# Altium footprint library Discrete_Passive.PcbLib: 311 footprints (part 14 of 20)
Each footprint in its own frame and in the unit in brackets; x right, y up, seen from the top. Pads: shape width x height; smd on the part's side, far side on the other; paste and mask are expansions set on the pad; w line width, h text height; cw(c..) or ccw(c..) is an arc to the next point about the centre after c.
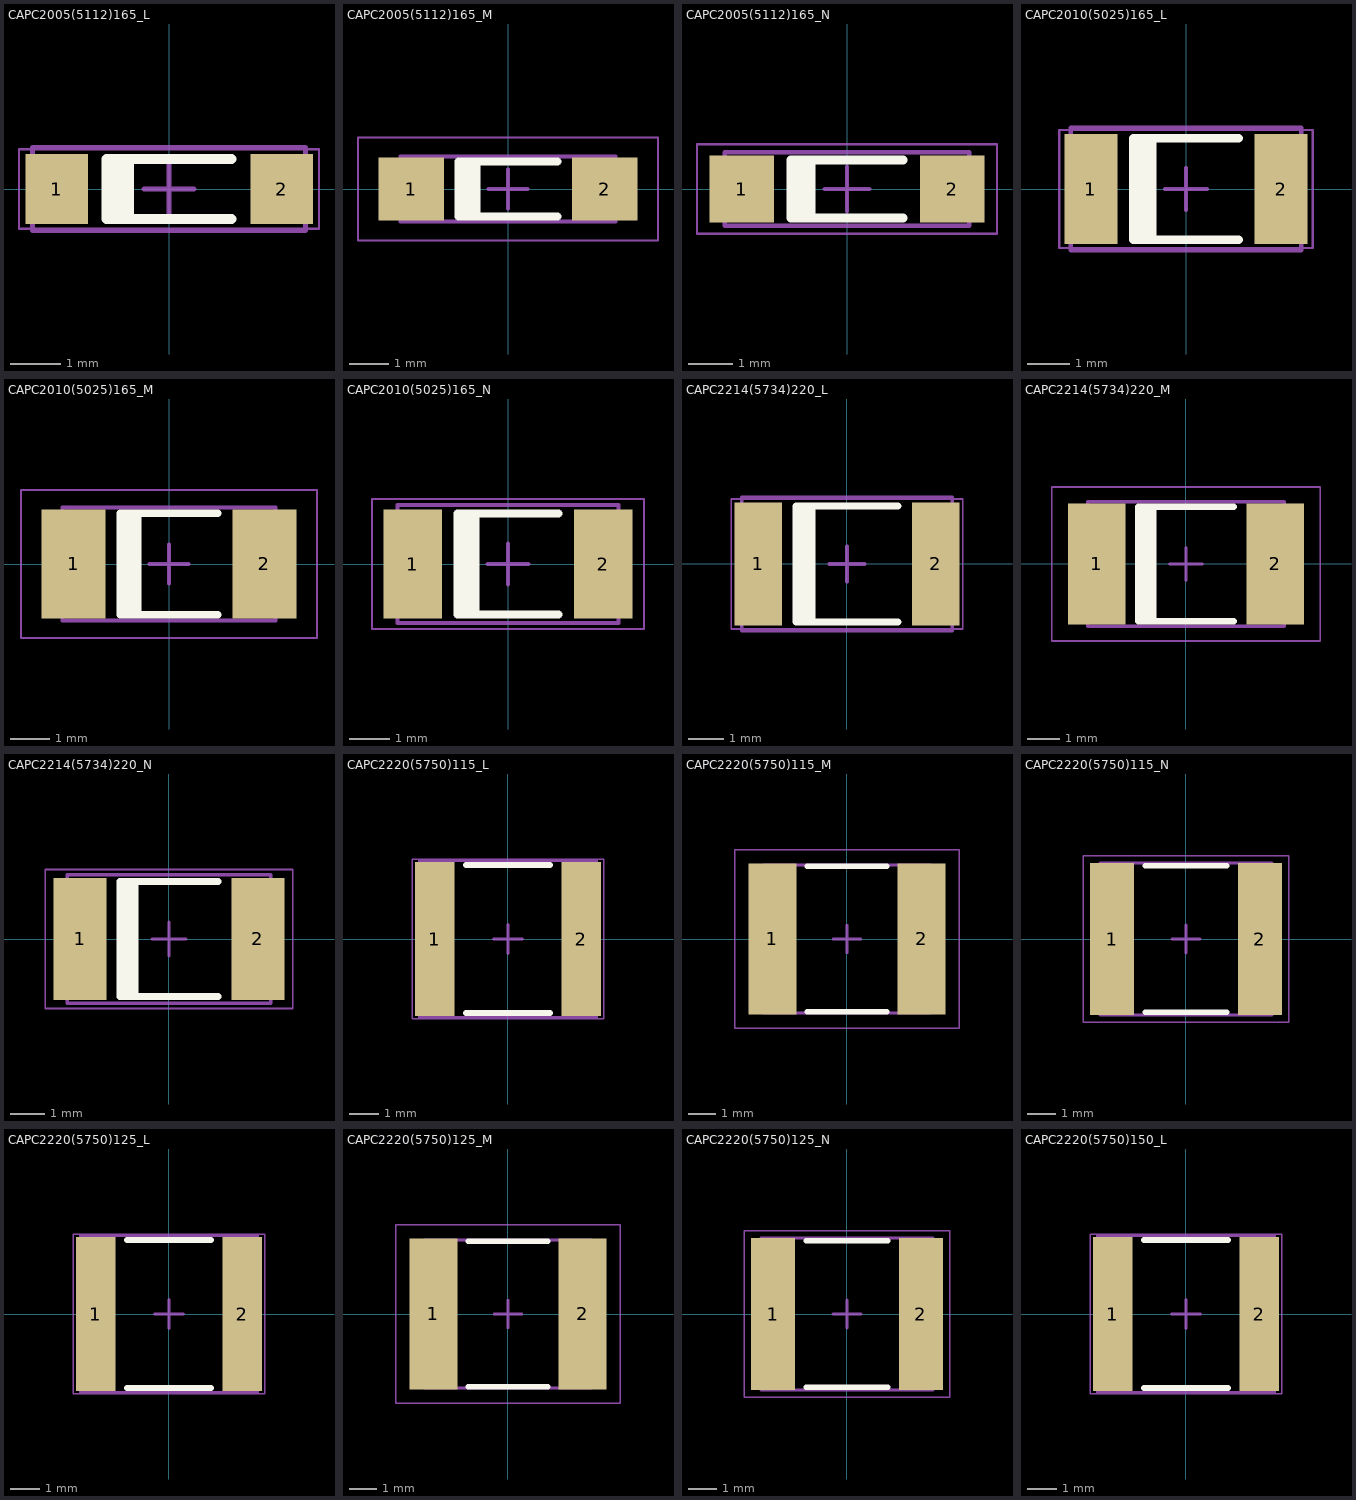
[diagram p13: the footprints below, top view; thin cyan lines are the x and y axes]

## CAPC2005(5112)165_L [mm] "Chip Capacitor, Body 5.0x1.2mm, Height 1.65mm, IPC High Density"
height 1.65
pads (2):
  rect 1.25x1.4 smd: 1(-2.25,0) 2(2.25,0)
Top Overlay:
  rectangle: -1.25,-0.6 -0.7,0.6
  lines w0.2: 1.25,-0.6 -1.25,-0.6 -1.25,0.6 1.25,0.6
Mechanical 13:
  lines w0.1: -2.73,-0.825 2.73,-0.825 2.73,0.825 -2.73,0.825 -2.73,-0.825
Mechanical 15:
  lines w0.05: -3,-0.8 3,-0.8 3,0.8 -3,0.8 -3,-0.8
  lines w0.1: -0.5,0 0.5,0 ; 0,-0.5 0,0.5
3D body: height 1.65, standoff 0, extent 1.97,-0.825 2.73,0.825
3D body: height 1.65, standoff 0, extent -2.73,-0.825 -1.97,0.825
3D body: height 1.65, standoff 0, extent -1.97,-0.825 1.97,0.825

## CAPC2005(5112)165_M [mm] "Chip Capacitor, Body 5.0x1.2mm, Height 1.65mm, IPC Low Density"
height 1.65
pads (2):
  rect 1.65x1.6 smd: 1(-2.45,0) 2(2.45,0)
Top Overlay:
  rectangle: -1.25,-0.7 -0.7,0.7
  lines w0.2: 1.25,-0.7 -1.25,-0.7 -1.25,0.7 1.25,0.7
Mechanical 13:
  lines w0.1: -2.73,-0.825 2.73,-0.825 2.73,0.825 -2.73,0.825 -2.73,-0.825
Mechanical 15:
  lines w0.05: -3.8,-1.3 3.8,-1.3 3.8,1.3 -3.8,1.3 -3.8,-1.3
  lines w0.1: -0.5,0 0.5,0 ; 0,-0.5 0,0.5
3D body: height 1.65, standoff 0, extent 1.97,-0.825 2.73,0.825
3D body: height 1.65, standoff 0, extent -2.73,-0.825 -1.97,0.825
3D body: height 1.65, standoff 0, extent -1.97,-0.825 1.97,0.825

## CAPC2005(5112)165_N [mm] "Chip Capacitor, Body 5.0x1.2mm, Height 1.65mm, IPC Medium Density"
height 1.65
pads (2):
  rect 1.45x1.5 smd: 1(-2.35,0) 2(2.35,0)
Top Overlay:
  rectangle: -1.25,-0.65 -0.7,0.65
  lines w0.2: 1.25,-0.65 -1.25,-0.65 -1.25,0.65 1.25,0.65
Mechanical 13:
  lines w0.1: -2.73,-0.825 2.73,-0.825 2.73,0.825 -2.73,0.825 -2.73,-0.825
Mechanical 15:
  lines w0.05: -3.35,-1 3.35,-1 3.35,1 -3.35,1 -3.35,-1
  lines w0.1: -0.5,0 0.5,0 ; 0,-0.5 0,0.5
3D body: height 1.65, standoff 0, extent 1.97,-0.825 2.73,0.825
3D body: height 1.65, standoff 0, extent -2.73,-0.825 -1.97,0.825
3D body: height 1.65, standoff 0, extent -1.97,-0.825 1.97,0.825

## CAPC2010(5025)165_L [mm] "Chip Capacitor, Body 5.08x2.5mm, Height 1.65mm, IPC High Density"
height 1.65
pads (2):
  rect 1.25x2.6 smd: 1(-2.25,0) 2(2.25,0)
Top Overlay:
  rectangle: -1.25,-1.2 -0.7,1.2
  lines w0.2: 1.25,-1.2 -1.25,-1.2 -1.25,1.2 1.25,1.2
Mechanical 13:
  lines w0.1: -2.73,-1.45 2.73,-1.45 2.73,1.45 -2.73,1.45 -2.73,-1.45
Mechanical 15:
  lines w0.05: -3,-1.4 3,-1.4 3,1.4 -3,1.4 -3,-1.4
  lines w0.1: -0.5,0 0.5,0 ; 0,-0.5 0,0.5
3D body: height 1.65, standoff 0, extent 1.97,-1.45 2.73,1.45
3D body: height 1.65, standoff 0, extent -2.73,-1.45 -1.97,1.45
3D body: height 1.65, standoff 0, extent -1.97,-1.45 1.97,1.45

## CAPC2010(5025)165_M [mm] "Chip Capacitor, Body 5.08x2.5mm, Height 1.65mm, IPC Low Density"
height 1.65
pads (2):
  rect 1.65x2.8 smd: 1(-2.45,0) 2(2.45,0)
Top Overlay:
  rectangle: -1.25,-1.3 -0.7,1.3
  lines w0.2: 1.25,-1.3 -1.25,-1.3 -1.25,1.3 1.25,1.3
Mechanical 13:
  lines w0.1: -2.73,-1.45 2.73,-1.45 2.73,1.45 -2.73,1.45 -2.73,-1.45
Mechanical 15:
  lines w0.05: -3.8,-1.9 3.8,-1.9 3.8,1.9 -3.8,1.9 -3.8,-1.9
  lines w0.1: -0.5,0 0.5,0 ; 0,-0.5 0,0.5
3D body: height 1.65, standoff 0, extent 1.97,-1.45 2.73,1.45
3D body: height 1.65, standoff 0, extent -2.73,-1.45 -1.97,1.45
3D body: height 1.65, standoff 0, extent -1.97,-1.45 1.97,1.45

## CAPC2010(5025)165_N [mm] "Chip Capacitor, Body 5.08x2.5mm, Height 1.65mm, IPC Medium Density"
height 1.65
pads (2):
  rect 1.45x2.7 smd: 1(-2.35,0) 2(2.35,0)
Top Overlay:
  rectangle: -1.25,-1.25 -0.7,1.25
  lines w0.2: 1.25,-1.25 -1.25,-1.25 -1.25,1.25 1.25,1.25
Mechanical 13:
  lines w0.1: -2.73,-1.45 2.73,-1.45 2.73,1.45 -2.73,1.45 -2.73,-1.45
Mechanical 15:
  lines w0.05: -3.35,-1.6 3.35,-1.6 3.35,1.6 -3.35,1.6 -3.35,-1.6
  lines w0.1: -0.5,0 0.5,0 ; 0,-0.5 0,0.5
3D body: height 1.65, standoff 0, extent 1.97,-1.45 2.73,1.45
3D body: height 1.65, standoff 0, extent -2.73,-1.45 -1.97,1.45
3D body: height 1.65, standoff 0, extent -1.97,-1.45 1.97,1.45

## CAPC2214(5734)220_L [mm] "Chip Capacitor, Body 5.7x3.4mm, Height 2.2mm, IPC High Density"
height 2.2
pads (2):
  rect 1.35x3.5 smd: 1(-2.525,0) 2(2.525,0)
Top Overlay:
  rectangle: -1.45,-1.65 -0.9,1.65
  lines w0.2: 1.45,-1.65 -1.45,-1.65 -1.45,1.65 1.45,1.65
Mechanical 13:
  lines w0.1: -3,-1.9 3,-1.9 3,1.9 -3,1.9 -3,-1.9
Mechanical 15:
  lines w0.05: -3.3,-1.85 3.3,-1.85 3.3,1.85 -3.3,1.85 -3.3,-1.85
  lines w0.1: -0.5,0 0.5,0 ; 0,-0.5 0,0.5
3D body: height 2.2, standoff 0, extent 2.24,-1.9 3,1.9
3D body: height 2.2, standoff 0, extent -3,-1.9 -2.24,1.9
3D body: height 2.2, standoff 0, extent -2.24,-1.9 2.24,1.9

## CAPC2214(5734)220_M [mm] "Chip Capacitor, Body 5.7x3.4mm, Height 2.2mm, IPC Low Density"
height 2.2
pads (2):
  rect 1.75x3.7 smd: 1(-2.725,0) 2(2.725,0)
Top Overlay:
  rectangle: -1.45,-1.75 -0.9,1.75
  lines w0.2: 1.45,-1.75 -1.45,-1.75 -1.45,1.75 1.45,1.75
Mechanical 13:
  lines w0.1: -3,-1.9 3,-1.9 3,1.9 -3,1.9 -3,-1.9
Mechanical 15:
  lines w0.05: -4.1,-2.35 4.1,-2.35 4.1,2.35 -4.1,2.35 -4.1,-2.35
  lines w0.1: -0.5,0 0.5,0 ; 0,-0.5 0,0.5
3D body: height 2.2, standoff 0, extent 2.24,-1.9 3,1.9
3D body: height 2.2, standoff 0, extent -3,-1.9 -2.24,1.9
3D body: height 2.2, standoff 0, extent -2.24,-1.9 2.24,1.9

## CAPC2214(5734)220_N [mm] "Chip Capacitor, Body 5.7x3.4mm, Height 2.2mm, IPC Medium Density"
height 2.2
pads (2):
  rect 1.55x3.6 smd: 1(-2.625,0) 2(2.625,0)
Top Overlay:
  rectangle: -1.45,-1.7 -0.9,1.7
  lines w0.2: 1.45,-1.7 -1.45,-1.7 -1.45,1.7 1.45,1.7
Mechanical 13:
  lines w0.1: -3,-1.9 3,-1.9 3,1.9 -3,1.9 -3,-1.9
Mechanical 15:
  lines w0.05: -3.65,-2.05 3.65,-2.05 3.65,2.05 -3.65,2.05 -3.65,-2.05
  lines w0.1: -0.5,0 0.5,0 ; 0,-0.5 0,0.5
3D body: height 2.2, standoff 0, extent 2.24,-1.9 3,1.9
3D body: height 2.2, standoff 0, extent -3,-1.9 -2.24,1.9
3D body: height 2.2, standoff 0, extent -2.24,-1.9 2.24,1.9

## CAPC2220(5750)115_L [mm] "Chip Capacitor, Body 5.7x5.0mm, Height 1.15mm, IPC High Density"
height 1.15
pads (2):
  rect 1.35x5.3 smd: 1(-2.525,0) 2(2.525,0)
Top Overlay:
  lines w0.2: -1.45,-2.55 1.45,-2.55 ; -1.45,2.55 1.45,2.55
Mechanical 13:
  lines w0.1: -3.05,-2.7 3.05,-2.7 3.05,2.7 -3.05,2.7 -3.05,-2.7
Mechanical 15:
  lines w0.05: -3.3,-2.75 3.3,-2.75 3.3,2.75 -3.3,2.75 -3.3,-2.75
  lines w0.1: -0.5,0 0.5,0 ; 0,-0.5 0,0.5
3D body: height 1.15, standoff 0, extent 2.45,-2.7 3.05,2.7
3D body: height 1.15, standoff 0, extent -3.05,-2.7 -2.45,2.7
3D body: height 1.15, standoff 0, extent -2.45,-2.7 2.45,2.7

## CAPC2220(5750)115_M [mm] "Chip Capacitor, Body 5.7x5.0mm, Height 1.15mm, IPC Low Density"
height 1.15
pads (2):
  rect 1.75x5.5 smd: 1(-2.725,0) 2(2.725,0)
Top Overlay:
  lines w0.2: -1.45,-2.65 1.45,-2.65 ; -1.45,2.65 1.45,2.65
Mechanical 13:
  lines w0.1: -3.05,-2.7 3.05,-2.7 3.05,2.7 -3.05,2.7 -3.05,-2.7
Mechanical 15:
  lines w0.05: -4.1,-3.25 4.1,-3.25 4.1,3.25 -4.1,3.25 -4.1,-3.25
  lines w0.1: -0.5,0 0.5,0 ; 0,-0.5 0,0.5
3D body: height 1.15, standoff 0, extent 2.45,-2.7 3.05,2.7
3D body: height 1.15, standoff 0, extent -3.05,-2.7 -2.45,2.7
3D body: height 1.15, standoff 0, extent -2.45,-2.7 2.45,2.7

## CAPC2220(5750)115_N [mm] "Chip Capacitor, Body 5.7x5.0mm, Height 1.15mm, IPC Medium Density"
height 1.15
pads (2):
  rect 1.55x5.4 smd: 1(-2.625,0) 2(2.625,0)
Top Overlay:
  lines w0.2: -1.45,-2.6 1.45,-2.6 ; -1.45,2.6 1.45,2.6
Mechanical 13:
  lines w0.1: -3.05,-2.7 3.05,-2.7 3.05,2.7 -3.05,2.7 -3.05,-2.7
Mechanical 15:
  lines w0.05: -3.65,-2.95 3.65,-2.95 3.65,2.95 -3.65,2.95 -3.65,-2.95
  lines w0.1: -0.5,0 0.5,0 ; 0,-0.5 0,0.5
3D body: height 1.15, standoff 0, extent 2.45,-2.7 3.05,2.7
3D body: height 1.15, standoff 0, extent -3.05,-2.7 -2.45,2.7
3D body: height 1.15, standoff 0, extent -2.45,-2.7 2.45,2.7

## CAPC2220(5750)125_L [mm] "Chip Capacitor, Body 5.7x5.0mm, Height 1.25mm, IPC High Density"
height 1.25
pads (2):
  rect 1.35x5.3 smd: 1(-2.525,0) 2(2.525,0)
Top Overlay:
  lines w0.2: -1.45,-2.55 1.45,-2.55 ; -1.45,2.55 1.45,2.55
Mechanical 13:
  lines w0.1: -3.05,-2.7 3.05,-2.7 3.05,2.7 -3.05,2.7 -3.05,-2.7
Mechanical 15:
  lines w0.05: -3.3,-2.75 3.3,-2.75 3.3,2.75 -3.3,2.75 -3.3,-2.75
  lines w0.1: -0.5,0 0.5,0 ; 0,-0.5 0,0.5
3D body: height 1.25, standoff 0, extent 2.45,-2.7 3.05,2.7
3D body: height 1.25, standoff 0, extent -3.05,-2.7 -2.45,2.7
3D body: height 1.25, standoff 0, extent -2.45,-2.7 2.45,2.7

## CAPC2220(5750)125_M [mm] "Chip Capacitor, Body 5.7x5.0mm, Height 1.25mm, IPC Low Density"
height 1.25
pads (2):
  rect 1.75x5.5 smd: 1(-2.725,0) 2(2.725,0)
Top Overlay:
  lines w0.2: -1.45,-2.65 1.45,-2.65 ; -1.45,2.65 1.45,2.65
Mechanical 13:
  lines w0.1: -3.05,-2.7 3.05,-2.7 3.05,2.7 -3.05,2.7 -3.05,-2.7
Mechanical 15:
  lines w0.05: -4.1,-3.25 4.1,-3.25 4.1,3.25 -4.1,3.25 -4.1,-3.25
  lines w0.1: -0.5,0 0.5,0 ; 0,-0.5 0,0.5
3D body: height 1.25, standoff 0, extent 2.45,-2.7 3.05,2.7
3D body: height 1.25, standoff 0, extent -3.05,-2.7 -2.45,2.7
3D body: height 1.25, standoff 0, extent -2.45,-2.7 2.45,2.7

## CAPC2220(5750)125_N [mm] "Chip Capacitor, Body 5.7x5.0mm, Height 1.25mm, IPC Medium Density"
height 1.25
pads (2):
  rect 1.55x5.4 smd: 1(-2.625,0) 2(2.625,0)
Top Overlay:
  lines w0.2: -1.45,-2.6 1.45,-2.6 ; -1.45,2.6 1.45,2.6
Mechanical 13:
  lines w0.1: -3.05,-2.7 -3.05,2.7 3.05,2.7 3.05,-2.7 -3.05,-2.7
Mechanical 15:
  lines w0.05: -3.65,-2.95 -3.65,2.95 3.65,2.95 3.65,-2.95 -3.65,-2.95
  lines w0.1: -0.5,0 0.5,0 ; 0,-0.5 0,0.5
3D body: height 1.25, standoff 0, extent -2.45,-2.7 2.45,2.7
3D body: height 1.25, standoff 0, extent -3.05,-2.7 -2.45,2.7
3D body: height 1.25, standoff 0, extent 2.45,-2.7 3.05,2.7

## CAPC2220(5750)150_L [mm] "Chip Capacitor, Body 5.7x5.0mm, Height 1.5mm, IPC High Density"
height 1.5
pads (2):
  rect 1.35x5.3 smd: 1(-2.525,0) 2(2.525,0)
Top Overlay:
  lines w0.2: -1.45,-2.55 1.45,-2.55 ; -1.45,2.55 1.45,2.55
Mechanical 13:
  lines w0.1: -3.05,-2.7 3.05,-2.7 3.05,2.7 -3.05,2.7 -3.05,-2.7
Mechanical 15:
  lines w0.05: -3.3,-2.75 3.3,-2.75 3.3,2.75 -3.3,2.75 -3.3,-2.75
  lines w0.1: -0.5,0 0.5,0 ; 0,-0.5 0,0.5
3D body: height 1.5, standoff 0, extent 2.45,-2.7 3.05,2.7
3D body: height 1.5, standoff 0, extent -3.05,-2.7 -2.45,2.7
3D body: height 1.5, standoff 0, extent -2.45,-2.7 2.45,2.7